# Altium schematic symbol library Power_Embedded_Board_Library.SchLib: 26 symbols
Pins are listed as number, name and electrical type; pins without a type are passive.

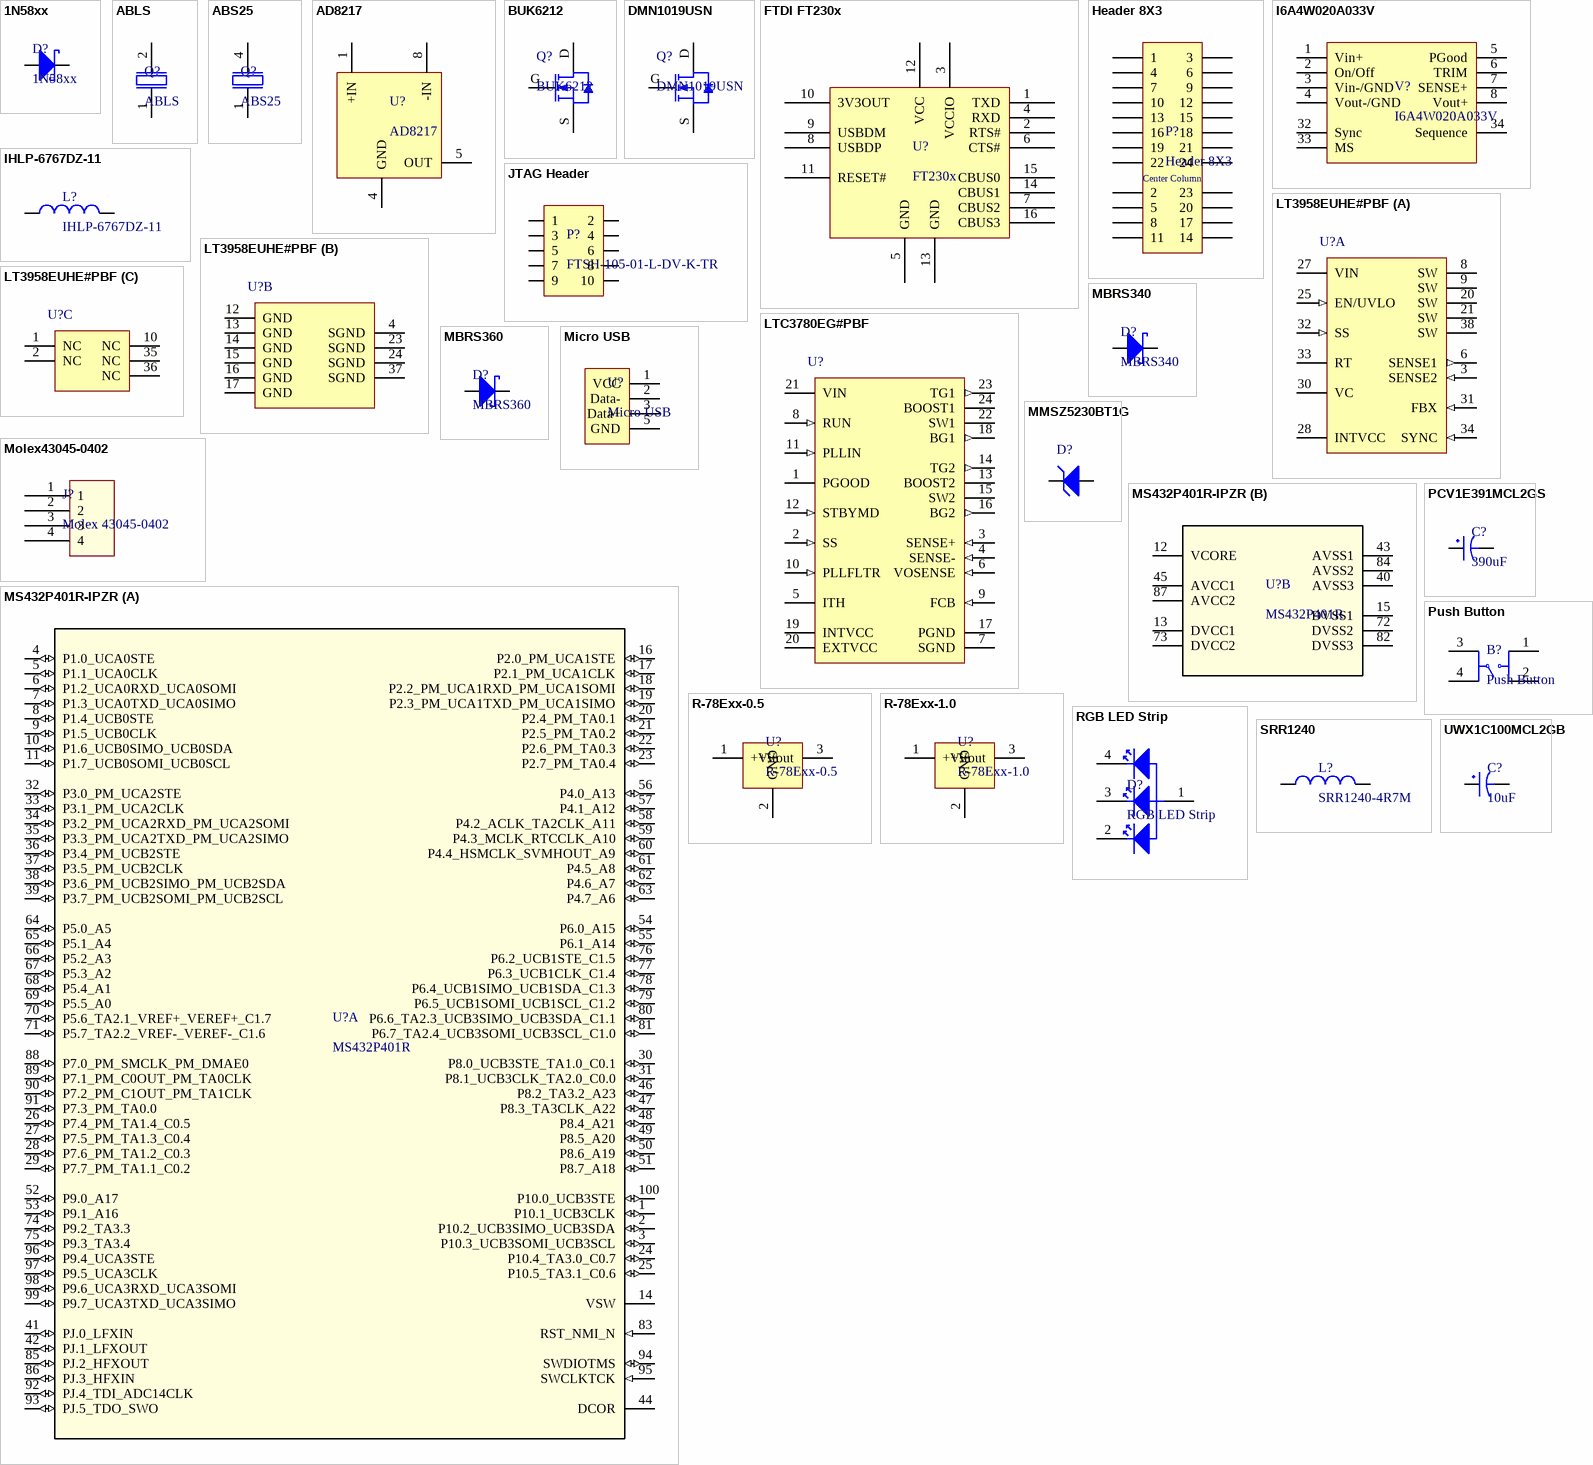
[diagram p0: symbols 1N58xx to UWX1C100MCL2GB]

## 1N58xx
designator D?
1A Schottky Barrier Rectifier Diode; Datasheet: http://www.kesenes.com/pdf/1n5817-1n5819.pdf
footprint 1N58xx (1A Schottky Barrier Rectifier Diode)
pins: A Anode, K Cathode

## ABLS
designator Q?
SMD Low Profile Crystal - 3.579545 MHz to 75 MHz; Datasheet: https://abracon.com/Resonators/abls.pdf
footprint ABLS (SMD Low Profile Crystal - 3.579545 MHz to 75 MHz)
pins: 1, 2

## ABS25
designator Q?
32.768 kHz Low Frequency SMD Crystal; Datasheet: https://abracon.com/Resonators/abs25.pdf
footprint ABS25 (32.768 kHz Low Frequency SMD Crystal)
pins: 1, 4

## AD8217
designator U?
High Resolution, Zero-Drift  Current Shunt Monitor; Datasheet: https://www.analog.com/media/en/technical-documentation/data-sheets/AD8217.pdf
footprint AD8217 (High Resolution, Zero-Drift Current Shunt Monitor)
pins: 1 +IN, 4 GND, 5 OUT, 8 -IN

## BUK6212
designator Q?
N-Channel TrenchMOS Intermediate Level FET, 40 V, 50 A, 3-Pin SOT428, Tape and Reel; Manufacturer: NXP Semiconductors; PartNumber: BUK6212-40C,118; Automotive Qualified: Y; Channel Type: N; ID [max] (A): 50; IDM [max] (A): 233; Packing: Tape & Reel; Qr [typ] (nC): 38; VDS [max] (V): 40; VGSth [typ] (V): 2.3; DatasheetVersion: Rev. 2; PackageVersion: 14-06-10, 06/2014; PackageReference: SOT428; PackageDescription: 3-Pin Plastic Single-ended Surface Mounted Package, Body 6.1 x 6.6 mm, Pitch 2.285 mm; Supplier 1: Digi-Key; Supplier Part Number 1: 568-6983-2-ND; Supplier 2: Digi-Key; Supplier Part Number 2: 568-6983-1-ND; Supplier 3: Digi-Key; Supplier Part Number 3: 568-6983-6-ND; Supplier 4: Mouser; Supplier Part Number 4: 771-BUK621240C118; Mounting Technology: Surface Mount; Code_JEITA: SC-63; Code_JEDEC: TO-252; ComponentLink1Description: Manufacturer URL; ComponentLink1URL: http://www.nxp.com/; ComponentLink2Description: Datasheet; ComponentLink2URL: http://www.nxp.com/documents/data_sheet/BUK6212-40C.pdf; ComponentLink3Description: Package Specification; ComponentLink3URL: http://www.nxp.com/documents/outline_drawing/sot428_po.pdf
footprint NXP-SOT428_M (DPAK, 3-Leads, Body 6.75x6.22mm, Pitch 2.29mm, IPC Low Density)
pins: D "mounting base; connected to drain", G "gate", S "source"

## DMN1019USN
designator Q?
12V N-Channel Enhancement Mode MOSFET; Datasheet: https://www.diodes.com/assets/Datasheets/DMN1019USN.pdf
footprint DMN1019USN (12V N-Channel Enhancement Mode MOSFET)
pins: D "mounting base; connected to drain", G "gate", S "source"

## FTDI FT230x
designator U?, comment FT230x
USB to Basic UART IC; Datasheet: https://www.ftdichip.com/Support/Documents/DataSheets/ICs/DS_FT230X.pdf
footprint FT230X (USB to BASIC UART IC)
pins: 1 TXD, 2 RTS#, 3 VCCIO, 4 RXD, 5 GND, 6 CTS#, 7 CBUS2, 8 USBDP, 9 USBDM, 10 3V3OUT, 11 RESET#, 12 VCC, 13 GND, 14 CBUS1, 15 CBUS0, 16 CBUS3

## Header 8X3
designator P?
Connector Header Through Hole 24 position 0.100" (2.54mm); Digikey: https://www.digikey.com/product-detail/en/samtec-inc/TSW-108-07-G-T/SAM10855-ND/2606399; Drawing: http://suddendocs.samtec.com/prints/tsw-xxx-xx-xxx-x-xx-xxx-mkt.pdf
pins: 1, 2, 3, 4, 5, 6, 7, 8, 9, 10, 11, 12, 13, 14, 15, 16, 17, 18, 19, 20, 21, 22, 23, 24
text: Center Column

## I6A4W020A033V
designator V?
12V 250W DC/DC Converter - Input 9V to 53V - Output 3.3V to 15V @ 20A; Digikey: https://www.digikey.com/product-detail/en/tdk-lambda-americas-inc/I6A4W020A033V-003-R/285-2669-ND/6605122; Datasheet: https://www.us.tdk-lambda.com/ftp/specs/i6a4w_datasheet.pdf
footprint I6A4W020A033V (12V 250W DC/DC Converter - Input 9V to 53V - Output 3.3V to 15V @ 20A)
pins: 1 Vin+, 2 On/Off, 3 Vin-/GND, 4 Vout-/GND, 5 PGood, 6 TRIM, 7 SENSE+, 8 Vout+, 32 Sync, 33 MS, 34 Sequence

## IHLP-6767DZ-11
designator L?
15µH Shielded Molded Inductor 14A 14.4 mOhm Max Nonstandard; Datasheet: http://www.vishay.com/docs/34306/lp67dz11.pdf; Digikey: https://www.digikey.com/product-detail/en/vishay-dale/IHLP6767GZER150M11/541-1287-1-ND/2139413
footprint IHLP-6767DZ-11 (15µH Shielded Molded Inductor 14A 14.4 mOhm Max Nonstandard)
pins: 1, 2

## JTAG Header
designator P?, comment FTSH-105-01-L-DV-K-TR
CONN HEADER 10POS DUAL .05" SMD; Digikey Link: https://www.digikey.com/product-detail/en/samtec-inc/FTSH-105-01-L-DV-K-TR/SAM13165CT-ND/8827920; Drawings: http://suddendocs.samtec.com/prints/ftsh-1xx-xx-xxx-dv-xxx-xxx-mkt.pdf; Datasheet: http://suddendocs.samtec.com/catalog_english/ftsh_smt.pdf
footprint FTSH-105-01-L-DV-K-TR (CONN HEADER 10POS DUAL .05" SMD)
pins: 1, 2, 3, 4, 5, 6, 7, 8, 9, 10

## LT3958EUHE#PBF
designator U?
High Input Voltage, Boost, Flyback, SEPIC and Inverting Converter, 36-pin QFN (UHE-36-UHE28MA), -40 to 125 degC, Pb-Free; Manufacturer: Linear Technology; PartNumber: LT3958EUHE#PBF; Frequency Adjust Range: 100kHz - 1MHz; Number of Outputs: 1; PackageVersion: Rev. D, 02/2012; PackageReference: UHE-36; PackageDescription: 28-Pin Plastic QFN, Body 5 x 6 mm, Pitch 0.5 mm; Supplier 1: Digi-Key; Supplier Part Number 1: LT3958EUHE#PBF-ND; Supplier 2: Farnell; Supplier Part Number 2: 2294964; Supplier 3: Newark; Supplier Part Number 3: 78R8466; RoHS: TRUE; Mounting Technology: Surface Mount; ComponentLink1Description: Manufacturer URL; ComponentLink1URL: http://www.linear.com/; ComponentLink2Description: Datasheet; ComponentLink2URL: http://cds.linear.com/docs/en/datasheet/3958f.pdf; ComponentLink3Description: Package Specification; ComponentLink3URL: http://cds.linear.com/docs/en/packaging/QFN_28_05-08-1836.pdf
footprint LT-UHE-36-V-UHE28MA_V (QFN, 28-Leads, Body 6x5mm, Pitch 0.5mm)
part A pins: 3 SENSE2 (in) "The Current Sense Input for the Control Loop. Connect this pin to SENSE1 pin directly or through a low pass filter (connect this pin to SENSE1 pin through a resistor, and to SGND through a capacitor).", 6 SENSE1 (out) "The Current Sense Output of the Internal N-channel MOSFET. Connect this pin to SENSE2 pin directly or through a lowpass filter (connect this pin to SENSE1 pin through a resistor, then connect SENSE2 to SGND through a (See Datasheet)", 8 SW (power) "Drain of Internal Power N-channel MOSFET.", 9 SW (power) "Drain of Internal Power N-channel MOSFET.", 20 SW (power) "Drain of Internal Power N-channel MOSFET.", 21 SW (power) "Drain of Internal Power N-channel MOSFET.", 25 EN/UVLO (in) "Shutdown and Undervoltage Detect Pin. An accurate 1.22V (nominal) falling threshold with externally programmable hysteresis detects when power is okay to enable switching. Rising hysteresis is generated by the external (See Datasheet)", 27 VIN (power) "Input Supply Pin. The VIN pin can be locally bypassed with a capacitor to GND (not SGND).", 28 INTVCC (power), 30 VC "Error Amplifier Compensation Pin. Used to stabilize the voltage loop with an external RC network. Place compensation components between the VC pin and SGND.", 31 FBX (in) "Positive and Negative Feedback Pin. Receives the feedback voltage from the external resistor divider between the output and SGND. Also modulates the switching frequency during start-up and fault conditions when FBX is close (See Datasheet)", 32 SS (in) "Soft-Start Pin. This pin modulates compensation pin voltage (VC) clamp. The soft-start interval is set with an external capacitor between SS pin and SGND. The pin has a 10uA (typical) pull-up current source to an internal 2.(See Datasheet)", 33 RT "Switching Frequency Adjustment Pin. Set the frequency using a resistor to SGND. Do not leave this pin open.", 34 SYNC (in) "Frequency Synchronization Pin. Used to synchronize the switching frequency to an outside clock. If this feature is used, an RT resistor should be chosen to program a switching frequency 20% slower than the SYNC pulse (See Datasheet)", 38 SW (power) "Drain of Internal Power N-channel MOSFET."
part B pins: 4 SGND (power) "Signal Ground. All small-signal components should connect to this ground. SGND is connected to GND inside the IC to ensure Kelvin connection for the internal switch current sensing. Do not connect SGND and GND externally.", 12 GND (power) "Ground. These pins connect to the source terminal of internal power N-channel MOSFET through an internal sense resistor. GND is connected to SGND inside the IC to ensure Kelvin connection for the internal switch current (See Datasheet)", 13 GND (power) "Ground. These pins connect to the source terminal of internal power N-channel MOSFET through an internal sense resistor. GND is connected to SGND inside the IC to ensure Kelvin connection for the internal switch current (See Datasheet)", 14 GND (power) "Ground. These pins connect to the source terminal of internal power N-channel MOSFET through an internal sense resistor. GND is connected to SGND inside the IC to ensure Kelvin connection for the internal switch current (See Datasheet)", 15 GND (power) "Ground. These pins connect to the source terminal of internal power N-channel MOSFET through an internal sense resistor. GND is connected to SGND inside the IC to ensure Kelvin connection for the internal switch current (See Datasheet)", 16 GND (power) "Ground. These pins connect to the source terminal of internal power N-channel MOSFET through an internal sense resistor. GND is connected to SGND inside the IC to ensure Kelvin connection for the internal switch current (See Datasheet)", 17 GND (power) "Ground. These pins connect to the source terminal of internal power N-channel MOSFET through an internal sense resistor. GND is connected to SGND inside the IC to ensure Kelvin connection for the internal switch current (See Datasheet)", 23 SGND (power) "Signal Ground. All small-signal components should connect to this ground. SGND is connected to GND inside the IC to ensure Kelvin connection for the internal switch current sensing. Do not connect SGND and GND externally.", 24 SGND (power) "Signal Ground. All small-signal components should connect to this ground. SGND is connected to GND inside the IC to ensure Kelvin connection for the internal switch current sensing. Do not connect SGND and GND externally.", 37 SGND (power) "Signal Ground. All small-signal components should connect to this ground. SGND is connected to GND inside the IC to ensure Kelvin connection for the internal switch current sensing. Do not connect SGND and GND externally."
part C pins: 1 NC "No Internal Connection. Leave these pins open or connect them to the adjacent pins.", 2 NC "No Internal Connection. Leave these pins open or connect them to the adjacent pins.", 10 NC "No Internal Connection. Leave these pins open or connect them to the adjacent pins.", 35 NC "No Internal Connection. Leave these pins open or connect them to the adjacent pins.", 36 NC "No Internal Connection. Leave these pins open or connect them to the adjacent pins."

## LTC3780EG#PBF
designator U?
Buck-boost Controller, Constant Frequency, Current Mode Control with Power Good Output, 24-pin SOP (G-24), -40 to 85 degC, Pb-Free; Manufacturer: Linear Technology; PartNumber: LTC3780EG#PBF; Frequency Sync Range: 200kHz - 400kHz; Number of Outputs: 1; DatasheetVersion: Rev. F; PackageVersion: Jun-10; PackageReference: G-24; PackageDescription: 24-Pin Plastic SSOP, Body 8.2 x 5.3 mm, Pitch 0.65 mm; Supplier 1: Digi-Key; Supplier Part Number 1: LTC3780EG#PBF-ND; Supplier 2: Farnell; Supplier Part Number 2: 1273545; Supplier 3: Newark; Supplier Part Number 3: 56M8395; RoHS: TRUE; Mounting Technology: Surface Mount; ComponentLink1Description: Manufacturer URL; ComponentLink1URL: http://www.linear.com/; ComponentLink2Description: Datasheet; ComponentLink2URL: http://cds.linear.com/docs/en/datasheet/3780ff.pdf; ComponentLink3Description: Package Specification; ComponentLink3URL: http://cds.linear.com/docs/en/packaging/SSOP_24_05-08-1640.pdf
footprint LT-G-24_L (SOP, 24-Leads, Body 8.5x5.6mm, Pitch 0.65mm, IPC High Density)
pins: 1 PGOOD (oc) "Open-Drain Logic Output. PGOOD is pulled to ground when the output voltage is not within +/-7.5% of the regulation point.", 2 SS (in) "Soft-start reduces the input power sources’ surge currents by gradually increasing the controller’s current limit. A minimum value of 6.8nF is recommended on this pin.", 3 SENSE+ (in) "The (+) Input to the Current Sense and Reverse Current Detect Comparators. The ITH pin voltage and built-in offsets between SENSE- and SENSE+ pins, in conjunction with RSENSE, set the current trip threshold.", 4 SENSE- (in) "The (-) Input to the Current Sense and Reverse Current Detect Comparators.", 5 ITH "Current Control Threshold and Error Amplifier Compensation Point. The current comparator threshold increases with this control voltage. The voltage ranges from 0V to 2.4V.", 6 VOSENSE (in) "Error Amplifier Feedback Input. This pin connects the error amplifier input to an external resistor divider from VOUT.", 7 SGND (power) "Signal Ground. All small-signal components and compensation components should connect to this ground, which should be connected to PGND at a single point. The QFN exposed pad must be soldered to PCB ground for electrical (See Datasheet)", 8 RUN (in) "Run Control Input. Forcing the RUN pin below 1.5V causes the IC to shut down the switching regulator circuitry. There is a 100k resistor between the RUN pin and SGND in the IC. Do not apply >6V to this pin.", 9 FCB (in) "Forced Continuous Control Input. The voltage applied to this pin sets the operating mode of the controller. When the applied voltage is less than 0.8V, the forced continuous current mode is active. When this pin is allowed (See Datasheet)", 10 PLLFLTR (in) "The phase-locked loop’s lowpass filter is tied to this pin. Alternatively, this pin can be driven with an AC or DC voltage source to vary the frequency of the internal oscillator.", 11 PLLIN (in) "External Synchronization Input to Phase Detector. This pin is internally terminated to SGND with 50kohm. The phase-locked loop will force the rising bottom gate signal of the controller to be synchronized with the rising (See Datasheet)", 12 STBYMD (in) "LDO Control Pin. Determines whether the internal LDO remains active when the controller is shut down. See Operation section for details. If the STBYMD pin is pulled to ground, the SS pin is internally pulled to ground, (See Datasheet)", 13 BOOST2 "Boosted Floating Driver Supply. The (+) terminal of the bootstrap capacitor CA and CB (Figure 11) connects here. The BOOST2 pin swings from a diode voltage below INTVCC up to VIN+ INTVCC. The BOOST1 pin swings from a diode (See Datasheet)", 14 TG2 (out) "Top Gate Drive. Drives the top N-channel MOSFET with a voltage swing equal to INTVCC superimposed on the switch node voltage SW", 15 SW2 "Switch Node. The (-) terminal of the bootstrap capacitor CA and CB (Figure 11) connects here. The SW2 pin swings from a Schottky diode (external) voltage drop below ground up to VIN. The SW1 pin swings from a Schottky diode (See Datasheet)", 16 BG2 (out) "Bottom Gate Drive. Drives the gate of the bottom N-channel MOSFET between ground and INTVCC.", 17 PGND (power) "Power Ground. Connect this pin closely to the source of the bottom N-channel MOSFET, the (-) terminal of CVCC and the (-) terminal of CIN (Figure 11).", 18 BG1 (out) "Bottom Gate Drive. Drives the gate of the bottom N-channel MOSFET between ground and INTVCC.", 19 INTVCC (power) "Internal 6V Regulator Output. The driver and control circuits are powered from this voltage. Bypass this pin to ground with a minimum of 4.7uF low ESR tantalum or ceramic capacitor", 20 EXTVCC (power) "External VCC Input. When EXTVCC exceeds 5.7V, an internal switch connects this pin to INTVCC and shuts down the internal regulator so that the controller and gate drive power is drawn from EXTVCC. Do not exceed 7V at this (See Datasheet)", 21 VIN (power) "Main Input Supply. Bypass this pin to SGND with an RC filter (1ohm, 0.1uF).", 22 SW1 "Switch Node. The (-) terminal of the bootstrap capacitor CA and CB (Figure 11) connects here. The SW2 pin swings from a Schottky diode (external) voltage drop below ground up to VIN. The SW1 pin swings from a Schottky diode (See Datasheet)", 23 TG1 (out) "Top Gate Drive. Drives the top N-channel MOSFET with a voltage swing equal to INTVCC superimposed on the switch node voltage SW", 24 BOOST1 "Boosted Floating Driver Supply. The (+) terminal of the bootstrap capacitor CA and CB (Figure 11) connects here. The BOOST2 pin swings from a diode voltage below INTVCC up to VIN+ INTVCC. The BOOST1 pin swings from a diode (See Datasheet)"

## MBRS340
designator D?
Schottky Rectifier; Datasheet: https://www.mouser.com/ds/2/308/MBRS340-1120985.pdf
footprint MBRS340 (Schottky Rectifier)
pins: A Anode, K Cathode

## MBRS360
designator D?
DIODE SCHOTTKY 60V 3A SMC; Digikey: https://www.digikey.com/product-detail/en/on-semiconductor/MBRS360T3G/MBRS360T3GOSCT-ND/918010; Datasheet: https://www.onsemi.com/pub/Collateral/MBRS360T3-D.PDF
footprint MBRS360 (Molded Diode, 2-Leads, Body 6.88x5.90mm, IPC Medium Density)
pins: 1 Anode, 2 Cathode

## Micro USB
designator U?
USB - micro B USB 2.0 Receptacle Connector 5 Position Surface Mount, Right Angle; Digikey: https://www.digikey.com/product-detail/en/molex-llc/1050170001/WM1399CT-ND/2350885; Datasheet: https://www.molex.com/pdm_docs/sd/1050170001_sd.pdf
footprint Micro USB (USB - micro B USB 2.0 Receptacle Connector 5 Position Surface Mount, Right Angle)
pins: 1 VCC, 2 Data-, 3 Data+, 5 GND

## MMSZ5230BT1G
designator D?
Zener Voltage Regulator, 500 mW, 2-Pin SOD-123, Pb-Free, Tape and Reel; Manufacturer: On Semiconductor; PartNumber: MMSZ5230BT1G; P Max (W): 0.5; VZ Typ (V): 4.7; DatasheetVersion: Rev. 12; PackageVersion: Rev. G, 10/2009; PackageReference: SOD-123-2-425-04; PackageDescription: 2-Pin SOD, Body 1.6 x 2.69 mm; Supplier 1: Digi-Key; Supplier Part Number 1: MMSZ5230BT1GOSTR-ND; Supplier 2: Digi-Key; Supplier Part Number 2: MMSZ5230BT1GOSCT-ND; Supplier 3: Digi-Key; Supplier Part Number 3: MMSZ5230BT1GOSDKR-ND; Supplier 4: Farnell; Supplier Part Number 4: 1431272; Supplier 5: Farnell; Supplier Part Number 5: 1431272RL; Supplier 6: Farnell; Supplier Part Number 6: 2370826; Supplier 7: Newark; Supplier Part Number 7: 83H7423; Supplier 8: Newark; Supplier Part Number 8: 67R1368; Supplier 9: Mouser; Supplier Part Number 9: 863-MMSZ5230BT1G; Packing: Tape and Reel; RoHS: Pb-Free; Mounting Technology: Surface Mount; ComponentLink1Description: Manufacturer URL; ComponentLink1URL: http://www.onsemi.com/; ComponentLink2Description: Datasheet; ComponentLink2URL: http://www.onsemi.com/pub_link/Collateral/MMSZ5221BT1-D.PDF; ComponentLink3Description: Package Specification; ComponentLink3URL: http://www.onsemi.com/pub_link/Collateral/425-04.PDF
footprint ONSC-SOD-123-2-425-04_V (SOD, 2-Leads, Body 2.69x1.6mm)
pins: 1 K, 2 A

## Molex43045-0402
designator J?, comment Molex 43045-0402
Micro-Fit 3.0 Right Angle Header, 3.00mm Pitch, Dual Row, 4 Circuits, with Snap-in Plastic Peg PCB Lock, Gold, Glow Wire Capable, Black; ComponentLink1Description: Molex Website; ComponentLink1URL: https://www.molex.com/molex/products/datasheet.jsp?part=active/0430450402_PCB_HEADERS.xml
footprint Molex43045-0402 (43045-0402)
pins: 1, 2, 3, 4

## MS432P401R-IPZR
designator U?, comment MS432P401R
SimpleLink Ultra-Low-Power 32-Bit ARM Cortex-M4F MCU With Precision ADC, 256KB Flash and 64KB RAM; PartNumber: XMS432P401RIPZR; Manufacturer: Texas Instruments; CompType: IC; PIN_COUNT: 100; PackageReference: PZ0100A; MountType: SMT; RefDes: RefDes; TYPE: TYPE; Value: Value
footprint PZ0100A_M (SimpleLink Ultra-Low-Power 32-Bit ARM Cortex-M4F MCU With Precision ADC, 256KB Flash and 64KB RAM)
part A pins: 1 P10.1_UCB3CLK (io), 2 P10.2_UCB3SIMO_UCB3SDA (io), 3 P10.3_UCB3SOMI_UCB3SCL (io), 4 P1.0_UCA0STE (io), 5 P1.1_UCA0CLK (io), 6 P1.2_UCA0RXD_UCA0SOMI (io), 7 P1.3_UCA0TXD_UCA0SIMO (io), 8 P1.4_UCB0STE (io), 9 P1.5_UCB0CLK (io), 10 P1.6_UCB0SIMO_UCB0SDA (io), 11 P1.7_UCB0SOMI_UCB0SCL (io), 14 VSW, 16 P2.0_PM_UCA1STE (io), 17 P2.1_PM_UCA1CLK (io), 18 P2.2_PM_UCA1RXD_PM_UCA1SOMI (io), 19 P2.3_PM_UCA1TXD_PM_UCA1SIMO (io), 20 P2.4_PM_TA0.1 (io), 21 P2.5_PM_TA0.2 (io), 22 P2.6_PM_TA0.3 (io), 23 P2.7_PM_TA0.4 (io), 24 P10.4_TA3.0_C0.7 (io), 25 P10.5_TA3.1_C0.6 (io), 26 P7.4_PM_TA1.4_C0.5 (io), 27 P7.5_PM_TA1.3_C0.4 (io), 28 P7.6_PM_TA1.2_C0.3 (io), 29 P7.7_PM_TA1.1_C0.2 (io), 30 P8.0_UCB3STE_TA1.0_C0.1 (io), 31 P8.1_UCB3CLK_TA2.0_C0.0 (io), 32 P3.0_PM_UCA2STE (io), 33 P3.1_PM_UCA2CLK (io), 34 P3.2_PM_UCA2RXD_PM_UCA2SOMI (io), 35 P3.3_PM_UCA2TXD_PM_UCA2SIMO (io), 36 P3.4_PM_UCB2STE (io), 37 P3.5_PM_UCB2CLK (io), 38 P3.6_PM_UCB2SIMO_PM_UCB2SDA (io), 39 P3.7_PM_UCB2SOMI_PM_UCB2SCL (io), 41 PJ.0_LFXIN (io), 42 PJ.1_LFXOUT (io), 44 DCOR, 46 P8.2_TA3.2_A23 (io), 47 P8.3_TA3CLK_A22 (io), 48 P8.4_A21 (io), 49 P8.5_A20 (io), 50 P8.6_A19 (io), 51 P8.7_A18 (io), 52 P9.0_A17 (io), 53 P9.1_A16 (io), 54 P6.0_A15 (io), 55 P6.1_A14 (io), 56 P4.0_A13 (io), 57 P4.1_A12 (io), 58 P4.2_ACLK_TA2CLK_A11 (io), 59 P4.3_MCLK_RTCCLK_A10 (io), 60 P4.4_HSMCLK_SVMHOUT_A9 (io), 61 P4.5_A8 (io), 62 P4.6_A7 (io), 63 P4.7_A6 (io), 64 P5.0_A5 (io), 65 P5.1_A4 (io), 66 P5.2_A3 (io), 67 P5.3_A2 (io), 68 P5.4_A1 (io), 69 P5.5_A0 (io), 70 P5.6_TA2.1_VREF+_VEREF+_C1.7 (io), 71 P5.7_TA2.2_VREF-_VEREF-_C1.6 (io), 74 P9.2_TA3.3 (io), 75 P9.3_TA3.4 (io), 76 P6.2_UCB1STE_C1.5 (io), 77 P6.3_UCB1CLK_C1.4 (io), 78 P6.4_UCB1SIMO_UCB1SDA_C1.3 (io), 79 P6.5_UCB1SOMI_UCB1SCL_C1.2 (io), 80 P6.6_TA2.3_UCB3SIMO_UCB3SDA_C1.1 (io), 81 P6.7_TA2.4_UCB3SOMI_UCB3SCL_C1.0 (io), 83 RST_NMI_N (in), 85 PJ.2_HFXOUT (io), 86 PJ.3_HFXIN (io), 88 P7.0_PM_SMCLK_PM_DMAE0 (io), 89 P7.1_PM_C0OUT_PM_TA0CLK (io), 90 P7.2_PM_C1OUT_PM_TA1CLK (io), 91 P7.3_PM_TA0.0 (io), 92 PJ.4_TDI_ADC14CLK (io), 93 PJ.5_TDO_SWO (io), 94 SWDIOTMS (io), 95 SWCLKTCK (in), 96 P9.4_UCA3STE (io), 97 P9.5_UCA3CLK (io), 98 P9.6_UCA3RXD_UCA3SOMI (io), 99 P9.7_UCA3TXD_UCA3SIMO (io), 100 P10.0_UCB3STE (io)
part B pins: 12 VCORE (power), 13 DVCC1 (power), 15 DVSS1 (power), 40 AVSS3 (power), 43 AVSS1 (power), 45 AVCC1 (power), 72 DVSS2 (power), 73 DVCC2 (power), 82 DVSS3 (power), 84 AVSS2 (power), 87 AVCC2 (power)

## PCV1E391MCL2GS
designator C?, comment 390uF
CAP ALUM POLY 390UF 20% 25V SMD; Digikey: https://www.digikey.com/product-detail/en/nichicon/PCV1E391MCL2GS/493-4544-1-ND/2786841; Datasheet: http://nichicon-us.com/english/products/pdfs/e-pcv.pdf
footprint PCVxxxxxMCLxGS (Aluminum Electrolytic Capacitor, Body 10.30x10.30x12.70mm, IPC Low Density)
pins: 1, 2

## Push Button
designator B?
Tactile Switch SPST-NO Top Actuated Through Hole; Digikey Link: https://www.digikey.com/product-detail/en/te-connectivity-alcoswitch-switches/FSM101/450-1157-ND/701084; Drawing: https://www.te.com/commerce/DocumentDelivery/DDEController?Action=srchrtrv&DocNm=1571140&DocType=Customer+Drawing&DocLang=English
footprint Push Button (Tactile Switch SPST-NO Top Actuated Through Hole)
pins: 1, 2, 3, 4

## R-78Exx-0.5
designator U?
0.5A DC/DC Voltage Converter; Datasheet: https://www.recom-power.com/pdf/Innoline/R-78Exx-0.5.pdf
footprint R-78Exx-0.5 (0.5A DC/DC Voltage Converter)
pins: 1 +Vin, 2 GND, 3 +Vout

## R-78Exx-1.0
designator U?
1A DC/DC Voltage Converter; Datasheet: https://www.recom-power.com/pdf/Innoline/R-78Exx-0.5.pdf
footprint R-78Exx-1.0 (1A DC/DC Voltage Converter)
pins: 1 +Vin, 2 GND, 3 +Vout

## RGB LED Strip
designator D?
LED RGB Strip - Bare Nonaddressable; Sparkfun Link: https://www.sparkfun.com/products/12021
pins: 1, 2, 3, 4

## SRR1240
designator L?, comment SRR1240-4R7M
FIXED IND 4.7UH 6A 18 MOHM SMD; Digikey: https://www.digikey.com/product-detail/en/bourns-inc/SRR1240-4R7M/SRR1240-4R7MCT-ND/2127398; Datasheet: https://www.bourns.com/docs/Product-Datasheets/SRR1240.pdf
footprint SRR1240 (Molded Inductor, 2-Leads, Body 12.50x12.50mm, IPC Medium Density)
pins: 1, 2

## UWX1C100MCL2GB
designator C?, comment 10uF
CAP ALUM 10UF 20% 16V SMD; Digikey: https://www.digikey.com/product-detail/en/nichicon/UWX1C100MCL2GB/493-2099-1-ND/590074; Datasheet: http://nichicon-us.com/english/products/pdfs/e-uwx.pdf
footprint UWX1C100MCL2GB (Aluminum Electrolytic Capacitor, Body 3.30x3.30x5.50mm, IPC Low Density)
pins: 1, 2